# EAGLE library part TJA1049T/3 (library CAN)
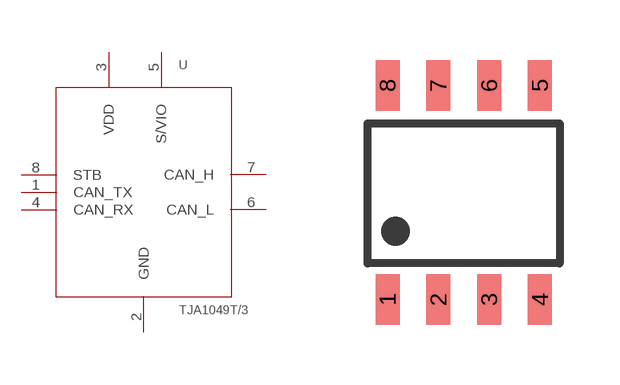
[diagram p4: symbol with the pads of SO8; footprint SO8]

Designator prefix U

## TJA1049T/3  [SO8]
1  CAN_TX
2  GND  pwr
3  VDD  pwr
4  CAN_RX
5  S/VIO
6  CAN_L
7  CAN_H
8  STB

## Footprint SO8 (pad centres in mm)
smd 0.6 x 1.27: 1 0,0; 2 1.27,0; 3 2.54,0; 4 3.81,0; 5 3.81,5.35; 6 2.54,5.35; 7 1.27,5.35; 8 0,5.35